# EAGLE library part MINI-USB-SCHIELD- (library rfid)
MINI USB-B Conector Source: www.cypressindustries.com
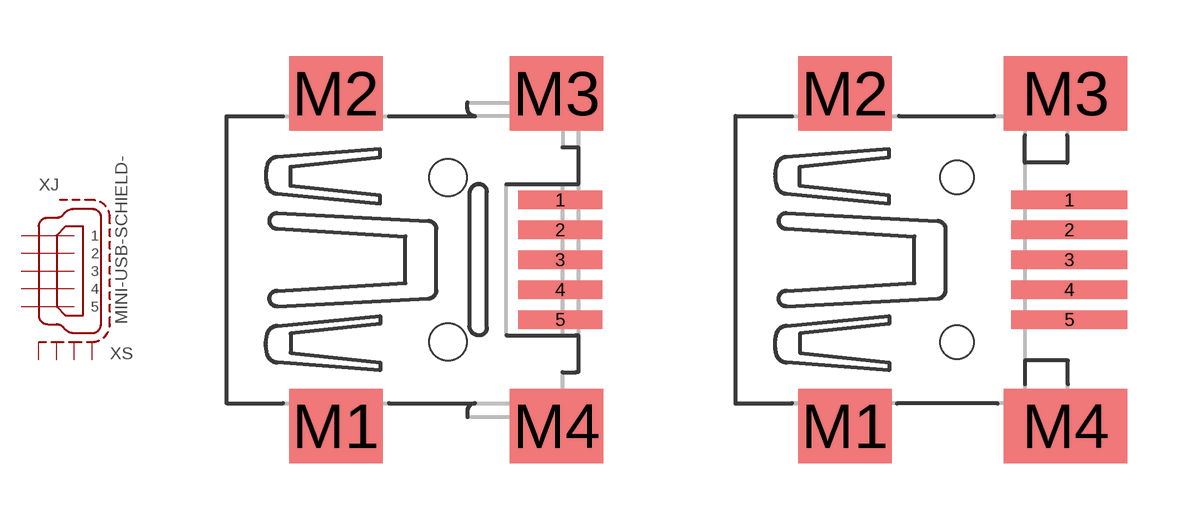
[diagram p8: symbol with the pads of 32005-201; footprints 32005-201, 32005-301]

Designator prefix X; gates J=MINI-USB-5 S=SHIELD_4

## MINI-USB-SCHIELD-32005-201  [32005-201]
1  J:1  pas
2  J:2  pas
3  J:3  pas
4  J:4  pas
5  J:5  pas
M1  S:S1  pas
M2  S:S2  pas
M3  S:S3  pas
M4  S:S4  pas

## MINI-USB-SCHIELD-32005-301  [32005-301]
Pads as for 32005-201

## Footprint 32005-201 (pad centres in mm)
MINI USB-B R/A SMT W/ REAR Source: http://www.cypressindustries.com/pdf/32005-201.pdf
smd 2.25 x 0.5: 1 3,1.6; 2 3,0.8; 3 3,0; 4 3,-0.8; 5 3,-1.6
smd 2.5 x 2: M1 -3,-4.45; M2 -3,4.45; M3 2.9,4.45; M4 2.9,-4.45
hole 1 at 0,2.2
hole 1 at 0,-2.2

## Footprint 32005-301 (pad centres in mm)
MINI USB-B R/A SMT W/O REAR Source: http://www.cypressindustries.com/pdf/32005-301.pdf
smd 3.1 x 0.5: 1 3,1.6; 2 3,0.8; 3 3,0; 4 3,-0.8; 5 3,-1.6
smd 2.5 x 2: M1 -3,-4.45; M2 -3,4.45
smd 3.3 x 2: M3 2.9,4.45; M4 2.9,-4.45
hole 0.9 at 0,2.2
hole 0.9 at 0,-2.2